# Altium schematic symbol library Voltage regulators.SchLib: 5 symbols
Pins are listed as number, name and electrical type; pins without a type are passive.

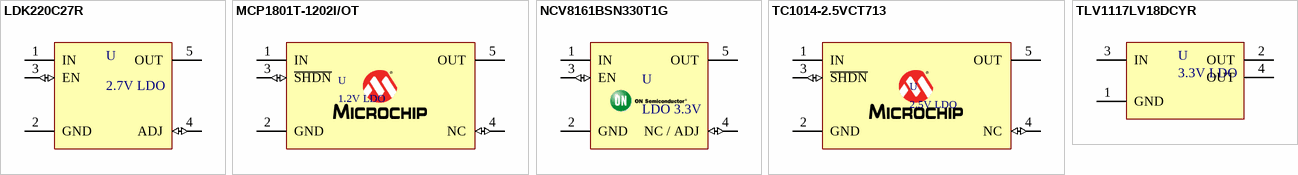
[diagram p0: symbols LDK220C27R to TLV1117LV18DCYR]

## LDK220C27R
designator U, comment 2.7V LDO
2.7V fixed output LDO
footprint LDK220C27 (SOT23, 5-Leads, Body 2.95x2.80mm, Pitch 0.95mm, IPC Medium Density)
pins: 1 IN (power), 2 GND (power), 3 EN (io), 4 ADJ (io), 5 OUT (power)

## MCP1801T-1202I/OT
designator U, comment 1.2V LDO
1.2V fixed output LDO 150mA
footprint MCP1801T-1202I/OT (SOT23, 5-Leads, Body 2,90x2,70mm, Pitch 0,95mm, IPC Medium Density)
pins: 1 IN (power), 2 GND (power), 3 ~{SHDN} (io), 4 NC (io), 5 OUT (power)

## NCV8161BSN330T1G
designator U, comment LDO 3.3V
3.3V fixed output LDO, < 10uVrms
footprint NCV8161BSN330T1G (SOT23, 5-Leads, Body 3.00x2.75mm, Pitch 0.95mm, IPC Medium Density)
pins: 1 IN (power), 2 GND (power), 3 EN (io), 4 NC / ADJ (io), 5 OUT (power)

## TC1014-2.5VCT713
designator U, comment 2.5V LDO
2.5V fixed output LDO 50mA
footprint TC1014-2.5VCT713 (SOT23, 5-Leads, Body 2,90x2,70mm, Pitch 0,95mm, IPC Medium Density)
pins: 1 IN (power), 2 GND (power), 3 ~{SHDN} (io), 4 NC (io), 5 OUT (power)

## TLV1117LV18DCYR
designator U, comment 3.3V LDO
3.3V adjustable output LDO
footprint TLV1117LV18DCYR (SOT223)
pins: 1 GND (power), 2 OUT (power), 3 IN (power), 4 OUT (power)